# Altium footprint library Wurth_Elektronik_Passive_rev16a.PCBLIB: 810 footprints (part 14 of 51)
Each footprint in its own frame and in the unit in brackets; x right, y up, seen from the top. Pads: shape width x height; smd on the part's side, far side on the other; paste and mask are expansions set on the pad; w line width, h text height; cw(c..) or ccw(c..) is an arc to the next point about the centre after c.
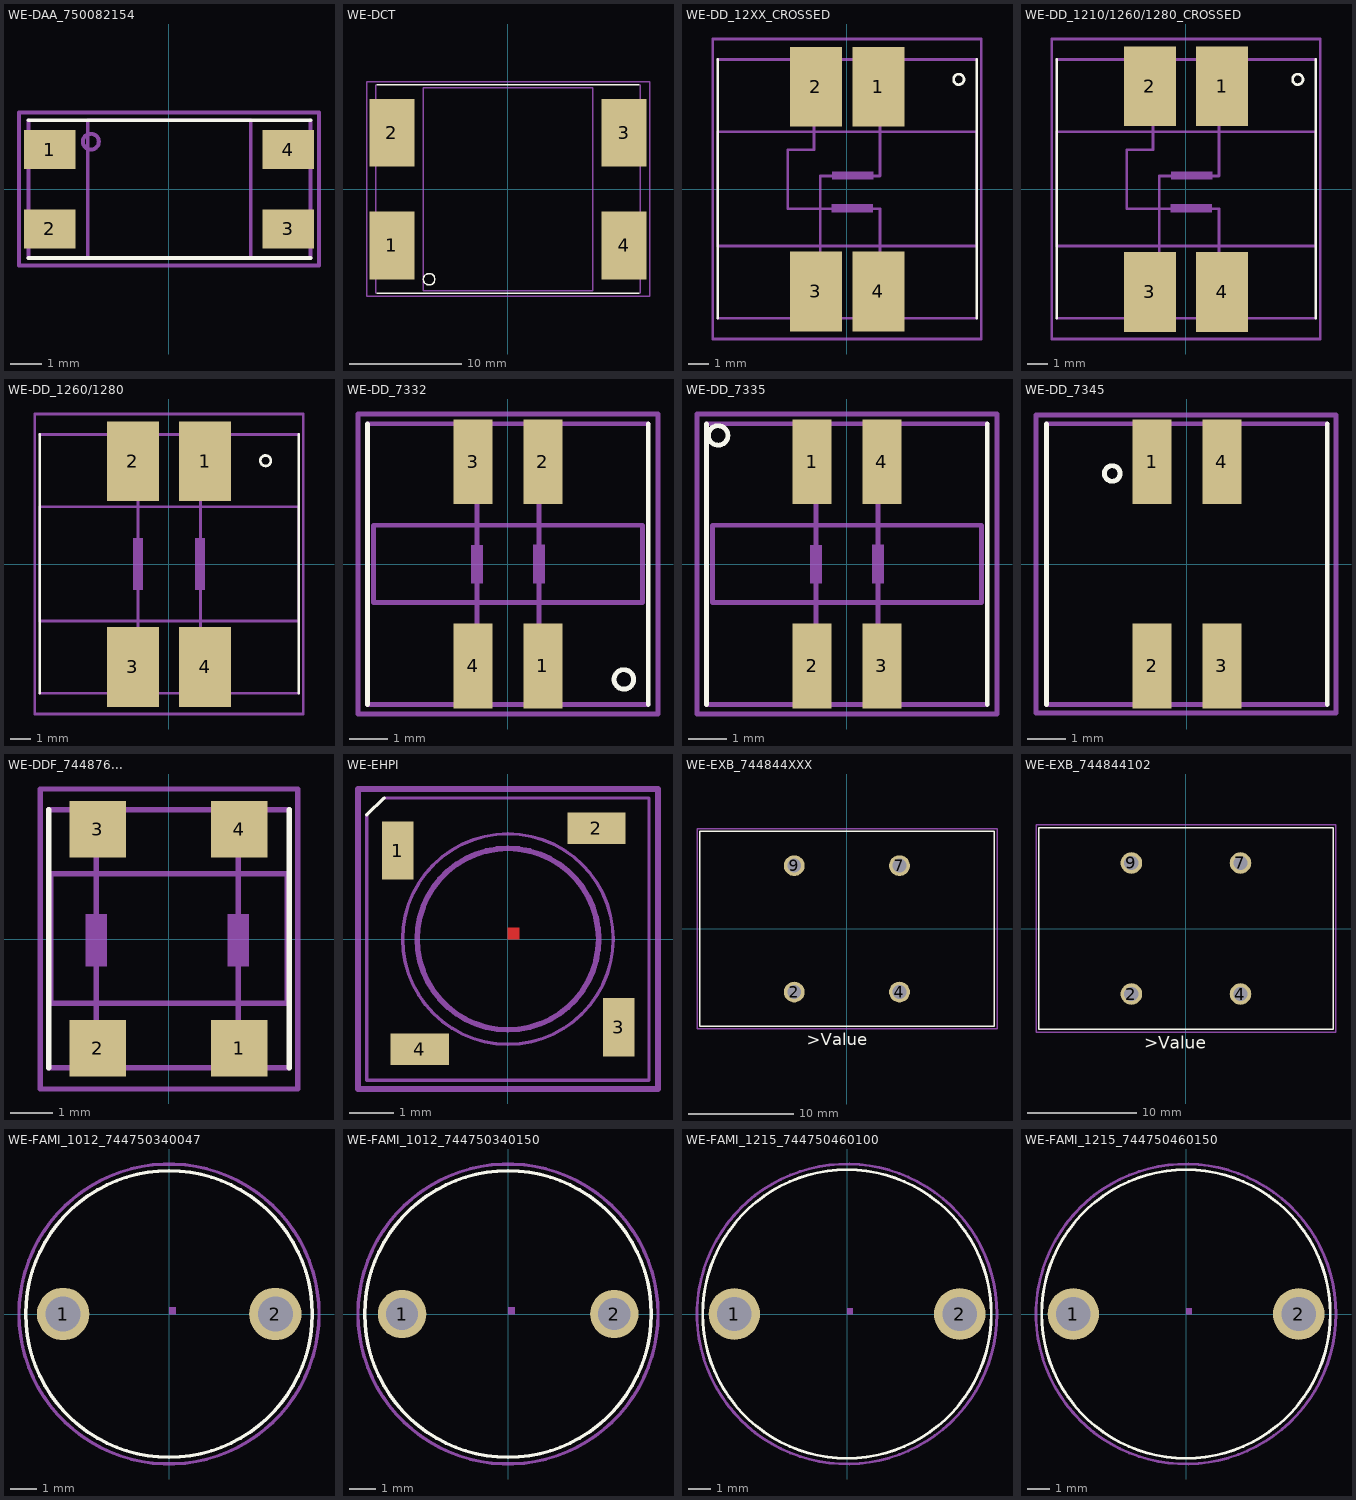
[diagram p13: the footprints below, top view; thin cyan lines are the x and y axes]

## WE-DAA_750082154 [mil]
pads (4):
  rect 65x49 smd: 1(-150,50) 2(-150,-50) 3(150,-50) 4(150,50)
Top Overlay:
  lines w5: -177.17,-86.42 178,-86.42 ; -177.17,87 178,87
Mechanical 2:
  circle w5: c-98.43,60 r10
  text ">NAME" at -125.98,111 h77.5
Mechanical 4:
  text ">VALUE" at -157.48,-157.48 h77.5
Mechanical 10:
  lines w5: -102.36,-86.42 -102.36,87 103,87 103,-86.42 -102.36,-86.42
Mechanical 16:
  lines w5: -177.17,-86.42 -177.17,87 ; 178,-86.42 178,87
Mechanical 27:
  lines w5: -188.98,-96.26 189,-96.26 189,97 -188.98,97 -188.98,-96.26

## WE-DCT [mil]
pads (4):
  rect 158x237 smd: 1(-405.51,-196.85) 2(-405.51,197) 3(406,197) 4(406,-196.85)
Top Overlay:
  circle w5: c-275.59,-314.96 r20
  lines w5: -458.66,-364.17 459,-364.17 ; -458.66,365 459,365
Mechanical 2:
  text ">NAME" at -472.44,394 h77.5
Mechanical 4:
  text ">VALUE" at -452.76,-452.76 h77.5
Mechanical 10:
  lines w5: -295.28,-354.33 -295.28,355 296,355 296,-354.33 -295.28,-354.33
Mechanical 16:
  lines w5: -462.6,-364.17 -462.6,365 ; 463,-364.17 463,365
  text "1" at -295.28,-196.85 h77.5
Mechanical 27:
  lines w5: -494.09,-374.02 -494.09,375 495,375 495,-374.02 -494.09,-374.02

## WE-DD_12XX_CROSSED [mil]
pads (4):
  rect 99x152 smd: 1(60,195) 2(-59.06,195) 3(-59.06,-194.88) 4(60,-194.88)
Top Overlay:
  circle w5: c213,209 r10
  lines w5: -246.06,-246.06 -246.06,247 ; 247,-246.06 247,247
Mechanical 2:
  text ">NAME" at -275.1,-238.58 h77.5
Mechanical 4:
  text ">VALUE" at 326,-248.43 h77.5
Mechanical 10:
  lines w5: -246.06,-108.27 -246.06,109 247,109 247,-108.27 -246.06,-108.27
Mechanical 16:
  rectangle: -28.08,18 51,34
  rectangle: -29.7,-44.35 50,-28.6
  lines w5: -246.06,-246.06 247,-246.06 ; -246.06,247 247,247 ; -62.5,188 -62.91,75 -112.5,75 -112.5,-37.5 63,-37.5 63,-194.88 ; -50.8,-194.88 -50.8,25 63,25 63,190
Mechanical 27:
  lines w5: -255.91,-285.43 -255.91,286 256,286 256,-285.43 -255.91,-285.43

## WE-DD_1210/1260/1280_CROSSED [mil]
pads (4):
  rect 99x152 smd: 1(69,196) 2(-68.9,196) 3(-68.9,-195.87) 4(69,-195.87)
Top Overlay:
  circle w5: c213,209 r10
  lines w5: -246.06,-246.06 -246.06,247 ; 247,-246.06 247,247
Mechanical 2:
  text ">NAME" at -275.1,-238.58 h77.5
Mechanical 4:
  text ">VALUE" at 326,-248.43 h77.5
Mechanical 10:
  lines w5: -246.06,-108.27 -246.06,109 247,109 247,-108.27 -246.06,-108.27
Mechanical 16:
  rectangle: -28.08,18 51,34
  rectangle: -29.7,-44.35 50,-28.6
  lines w5: -246.06,-246.06 247,-246.06 ; -246.06,247 247,247 ; -62.5,188 -62.91,75 -112.5,75 -112.5,-37.5 63,-37.5 63,-194.88 ; -50.8,-194.88 -50.8,25 63,25 63,190
Mechanical 27:
  lines w5: -255.91,-285.43 -255.91,286 256,286 256,-285.43 -255.91,-285.43

## WE-DD_1260/1280 [mil]
pads (4):
  rect 99x152 smd: 1(69,196) 2(-68.9,196) 3(-68.9,-195.87) 4(69,-195.87)
Top Overlay:
  circle w5: c184,197 r10
  lines w5: -246.06,-246.06 -246.06,247 ; 247,-246.06 247,247
Mechanical 2:
  text ">NAME" at -275.1,-248.43 h77.5
Mechanical 4:
  text ">VALUE" at 326,-248.43 h77.5
Mechanical 10:
  lines w5: -246.06,-108.27 -246.06,109 247,109 247,-108.27 -246.06,-108.27
Mechanical 16:
  rectangle: -68.9,-49.21 -49.21,50
  rectangle: 50,-49.21 69,50
  lines w5: -246.06,-246.06 247,-246.06 ; -246.06,247 247,247 ; -59.06,-137.8 -59.06,138 ; 60,-137.8 60,138
Mechanical 27:
  lines w5: -255.91,-285.43 -255.91,286 256,286 256,-285.43 -255.91,-285.43

## WE-DD_7332 [mil]
pads (4):
  rect 40x87 smd: 1(36,-104.33) 2(36,105) 3(-35.43,105) 4(-35.43,-104.33)
Top Overlay:
  circle w5: c119,-118.11 r10
  lines w5: -143.7,-143.7 -143.7,144 ; 144,-143.7 144,144
Mechanical 2:
  text ">NAME" at -160.63,-141.24 h37.2
Mechanical 4:
  text ">VALUE" at 182,-137.3 h37.2
Mechanical 10:
  lines w5: -137.8,-39.37 -137.8,40 138,40 138,-39.37 -137.8,-39.37
Mechanical 16:
  region: 26.05,20.05 26.05,-19.95 37.95,-19.95 37.95,20.05
  region: -37.45,19.73 -37.45,-19.64 -25.54,-19.64 -25.54,19.73
  lines w5: -143.7,-143.7 144,-143.7 ; -143.7,144 144,144 ; -31.5,-92.52 -31.5,93 ; 32,-92.52 32,93
Mechanical 27:
  lines w5: -153.54,-153.54 -153.54,154 154,154 154,-153.54 -153.54,-153.54

## WE-DD_7335 [mil]
pads (4):
  rect 40x87 smd: 1(-35.43,105) 2(-35.43,-104.33) 3(36,-104.33) 4(36,105)
Top Overlay:
  circle w5: c-131.89,132 r10
  lines w5: -143.7,-143.7 -143.7,144 ; 144,-143.7 144,144
Mechanical 2:
  text ">NAME" at -160.63,-141.24 h37.2
Mechanical 4:
  text ">VALUE" at 182,-137.3 h37.2
Mechanical 10:
  lines w5: -137.8,-39.37 -137.8,40 138,40 138,-39.37 -137.8,-39.37
Mechanical 16:
  region: 26.05,20.05 26.05,-19.95 37.95,-19.95 37.95,20.05
  region: -37.45,19.73 -37.45,-19.64 -25.54,-19.64 -25.54,19.73
  lines w5: -143.7,-143.7 144,-143.7 ; -143.7,144 144,144 ; -31.5,-92.52 -31.5,93 ; 32,-92.52 32,93
Mechanical 27:
  lines w5: -153.54,-153.54 -153.54,154 154,154 154,-153.54 -153.54,-153.54

## WE-DD_7345 [mil]
pads (4):
  rect 40x87 smd: 1(-35.43,105) 2(-35.43,-104.33) 3(36,-104.33) 4(36,105)
Top Overlay:
  circle w5: c-76.38,93 r8
  lines w5: -143.7,-143.7 -143.7,144 ; 144,-143.7 144,144
Mechanical 2:
  text ">NAME" at -173.23,174 h77.5
  text ">VALUE" at -165.35,-228.35 h77.5
Mechanical 16:
  lines w5: -143.7,-143.7 144,-143.7 ; -143.7,144 144,144
Mechanical 27:
  lines w5: -154.53,-152.56 -154.53,153 ; -152.56,-152.56 153,-152.56 153,153 -152.56,153

## WE-DDF_744876... [mil]
pads (4):
  rect 52x52 smd: 1(65,-100.39) 2(-64.96,-100.39) 3(-64.96,101) 4(65,101)
Top Overlay:
  lines w5: -110.24,-118.11 -110.24,119 ; 111,-118.11 111,119
Mechanical 2:
  text ">NAME" at -201.57,124 h77.5
Mechanical 4:
  text ">VALUE" at 149,124 h77.5
Mechanical 10:
  lines w5: -108.27,-59.06 -108.27,60 109,60 109,-59.06 -108.27,-59.06
Mechanical 16:
  rectangle: -76.38,-25.2 -56.69,23
  rectangle: 54,-25.2 74,23
  lines w5: -110.24,-118.11 111,-118.11 ; -110.24,119 111,119 ; -66.54,-101.97 -66.54,99 ; 64,-101.97 64,99
Mechanical 27:
  lines w5: -118.11,-137.8 -118.11,138 119,138 119,-137.8 -118.11,-137.8

## WE-EHPI [mil]
pads (4):
  rect 28x52 smd: 1(-98.43,79) 3(99,-78.74)
  rect 52x28 smd: 2(79,99) 4(-78.74,-98.43)
Top Layer:
  region: 0,0 10,0 10,10 0,10
  region: 0,0 10,0 10,10 0,10
  region: 0,0 10,0 10,10 0,10
  region: 0,0 10,0 10,10 0,10
Top Overlay:
  lines w3: -125.98,111 -110.24,126
Top Paste:
  region: 0,0 10,0 10,10 0,10
  region: 0,0 10,0 10,10 0,10
  region: 0,0 10,0 10,10 0,10
  region: 0,0 10,0 10,10 0,10
Top Solder:
  region: 0,0 10,0 10,10 0,10
  region: 0,0 10,0 10,10 0,10
  region: 0,0 10,0 10,10 0,10
  region: 0,0 10,0 10,10 0,10
Mechanical 2:
  text ">NAME" at -118.11,158 h77.5
Mechanical 4:
  text ">VALUE" at -118.11,-196.85 h77.5
Mechanical 10:
  circle w5: c0,0 r81
Mechanical 16:
  circle w3: c0,0 r94
  lines w3: -125.98,111 -125.98,-125.98 126,-125.98 126,126 -110.24,126
Mechanical 27:
  lines w5: -133.86,-133.86 134,-133.86 134,134 -133.86,134 -133.86,-133.86

## WE-EXB_744844XXX [mil]
pads (4):
  round 78 hole 52: 2(-196.85,-236.22) 4(197,-236.22) 7(197,237) 9(-196.85,237)
Top Overlay:
  lines w5: -551.18,-364.17 552,-364.17 552,365 -551.18,365 -551.18,-364.17
  text ">Value" at -150,-450 h77.5
Mechanical 2:
  text ">Name" at -150,400 h77.5
Mechanical 27:
  lines w5: -561.02,-374.02 562,-374.02 562,375 -561.02,375 -561.02,-374.02

## WE-EXB_744844102 [mil]
pads (4):
  round 78 hole 52: 2(-196.85,-236.22) 4(197,-236.22) 7(197,237) 9(-196.85,237)
Top Overlay:
  lines w5: -531.5,-364.17 532,-364.17 532,365 -531.5,365 -531.5,-364.17
  text ">Value" at -150,-450 h77.5
Mechanical 2:
  text ">Name" at -150,400 h77.5
Mechanical 27:
  lines w5: -541.34,-374.02 542,-374.02 542,375 -541.34,375 -541.34,-374.02

## WE-FAMI_1012_744750340047 [mil]
pads (2):
  round 78 hole 52: 1(-157.48,0) 2(158,0)
Top Overlay:
  circle w5: c0,0 r213
Mechanical 2:
  text ">NAME" at -150,250 h77.5
Mechanical 4:
  text ">VALUE" at -150,-300 h77.5
Mechanical 10:
  region: 0,0 10,0 10,10 0,10
Mechanical 27:
  circle w5: c0,0 r223

## WE-FAMI_1012_744750340150 [mil]
pads (2):
  round 72 hole 48: 1(-157.48,0) 2(158,0)
Top Overlay:
  circle w5: c0,0 r213
Mechanical 2:
  text ">NAME" at -150,250 h77.5
Mechanical 4:
  text ">VALUE" at -150,-300 h77.5
Mechanical 10:
  region: 0,0 10,0 10,10 0,10
Mechanical 27:
  circle w5: c0,0 r223

## WE-FAMI_1215_744750460100 [mil]
pads (2):
  round 90 hole 60: 1(-196.85,0) 2(197,0)
Top Overlay:
  circle w5: c0,0 r252
Mechanical 2:
  text ">NAME" at -150,350 h77.5
Mechanical 4:
  text ">VALUE" at -150,-400 h77.5
Mechanical 10:
  region: 0,0 10,0 10,10 0,10
Mechanical 27:
  circle w5: c0,0 r262

## WE-FAMI_1215_744750460150 [mil]
pads (2):
  round 90 hole 60: 1(-196.85,0) 2(197,0)
Top Overlay:
  circle w5: c0,0 r252
Mechanical 2:
  text ">NAME" at -150,350 h77.5
Mechanical 4:
  text ">VALUE" at -150,-400 h77.5
Mechanical 10:
  region: 0,0 10,0 10,10 0,10
Mechanical 27:
  circle w5: c0,0 r262